# Altium schematic symbol library MIC5225-1.8YM5-TR.SchLib: 1 symbol
Pins are listed as number, name and electrical type; pins without a type are passive.

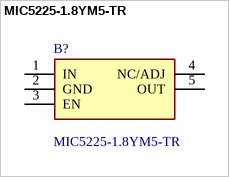
[diagram p0: symbol MIC5225-1.8YM5-TR]

## MIC5225-1.8YM5-TR
designator B?
LDO Voltage Regulators; Manufacturer_Name: Microchip; Geometry.Height: 1.3mm; Mouser Part Number: 998-MIC5225-1.8YM5TR; Mouser Price/Stock: https://www.mouser.co.uk/ProductDetail/Microchip-Technology/MIC5225-1.8YM5-TR?qs=U6T8BxXiZAW23RI71jjM5w%3D%3D; Manufacturer_Part_Number: MIC5225-1.8YM5-TR; Datasheet Link: http://www.microchip.com/mymicrochip/filehandler.aspx?ddocname=en579718
footprint SOT95P280X130-5N
pins: 1 IN, 2 GND, 3 EN, 4 NC/ADJ, 5 OUT